# Altium schematic symbol library DWM3001C.SchLib: 1 symbol
Pins are listed as number, name and electrical type; pins without a type are passive.

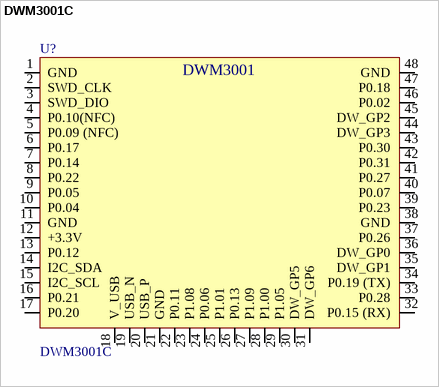
[diagram p0: symbol DWM3001C]

## DWM3001C
designator U?
footprint DWM3001C
pins: 1 GND, 2 SWD_CLK, 3 SWD_DIO, 4 P0.10(NFC), 5 P0.09 (NFC), 6 P0.17, 7 P0.14, 8 P0.22, 9 P0.05, 10 P0.04, 11 GND, 12 +3.3V, 13 P0.12, 14 I2C_SDA, 15 I2C_SCL, 16 P0.21, 17 P0.20, 18 V_USB, 19 USB_N, 20 USB_P, 21 GND, 22 P0.11, 23 P1.08, 24 P0.06, 25 P1.01, 26 P0.13, 27 P1.09, 28 P1.00, 29 P1.05, 30 DW_GP5, 31 DW_GP6, 32 P0.15 (RX), 33 P0.28, 34 P0.19 (TX), 35 DW_GP1, 36 DW_GP0, 37 P0.26, 38 GND, 39 P0.23, 40 P0.07, 41 P0.27, 42 P0.31, 43 P0.30, 44 DW_GP3, 45 DW_GP2, 46 P0.02, 47 P0.18, 48 GND
text: DWM3001